# Altium schematic symbol library Smartstick_Quaternions.SchLib: 4 symbols
Pins are listed as number, name and electrical type; pins without a type are passive.

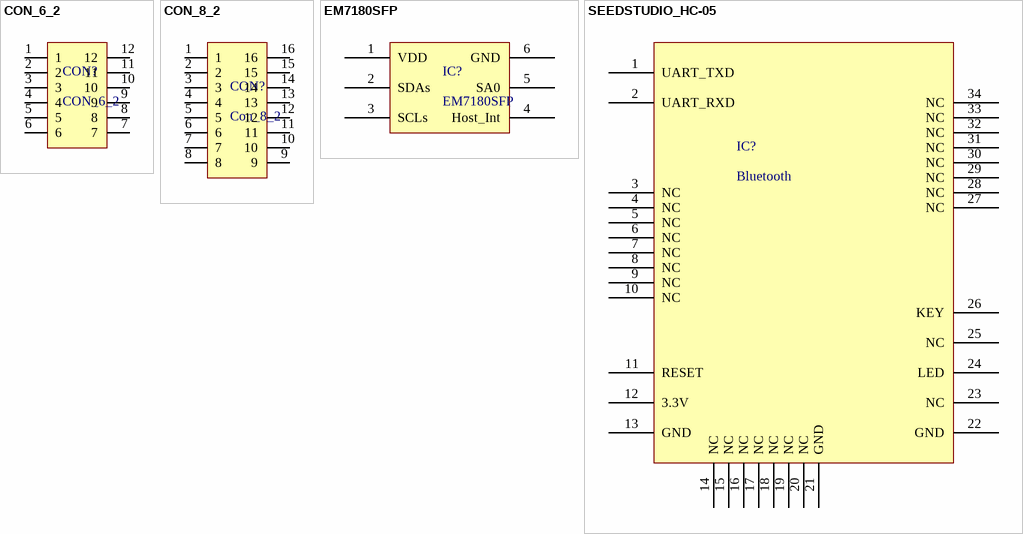
[diagram p0: symbols CON_6_2 to SEEDSTUDIO_HC-05]

## CON_6_2
designator CON?
pins: 1, 2, 3, 4, 5, 6, 7, 8, 9, 10, 11, 12

## CON_8_2
designator CON?, comment Con_8_2
pins: 1, 2, 3, 4, 5, 6, 7, 8, 9, 10, 11, 12, 13, 14, 15, 16

## EM7180SFP
designator IC?
pins: 1 VDD, 2 SDAs, 3 SCLs, 4 Host_Int, 5 SA0, 6 GND

## SEEDSTUDIO_HC-05
designator IC?, comment Bluetooth
pins: 1 UART_TXD, 2 UART_RXD, 3 NC, 4 NC, 5 NC, 6 NC, 7 NC, 8 NC, 9 NC, 10 NC, 11 RESET, 12 3.3V, 13 GND, 14 NC, 15 NC, 16 NC, 17 NC, 18 NC, 19 NC, 20 NC, 21 GND, 22 GND, 23 NC, 24 LED, 25 NC, 26 KEY, 27 NC, 28 NC, 29 NC, 30 NC, 31 NC, 32 NC, 33 NC, 34 NC